# Altium footprint library PCB_Library.PcbLib: 22 footprints (part 2 of 2)
Each footprint in its own frame and in the unit in brackets; x right, y up, seen from the top. Pads: shape width x height; smd on the part's side, far side on the other; paste and mask are expansions set on the pad; w line width, h text height; cw(c..) or ccw(c..) is an arc to the next point about the centre after c.
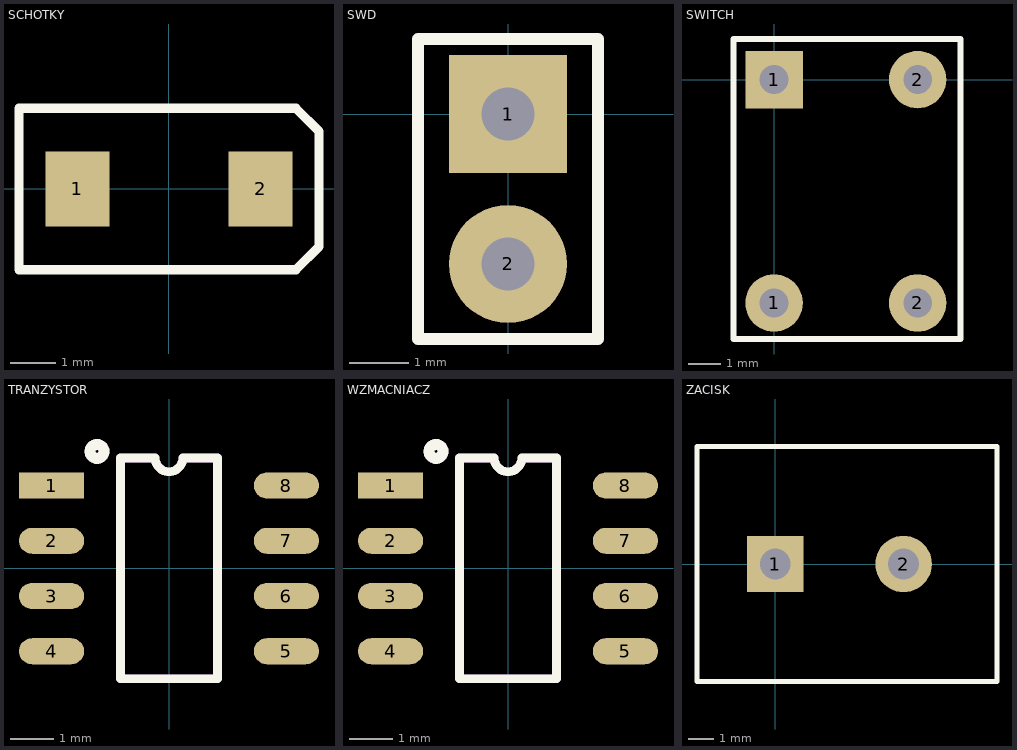
[diagram p1: the footprints below, top view; thin cyan lines are the x and y axes]

## SCHOTKY [mm]
pads (2):
  rect 1.4x1.64 smd paste+0 mask+0.102: 1(-2.015,0) 2(2.015,0)
Top Overlay:
  lines w0.2: -3.302,-1.778 -3.302,1.778 2.794,1.778 3.302,1.27 3.302,-1.27 2.794,-1.778 -3.302,-1.778
3D body "SCHOOTKY.step": height 2.64, standoff 0, extent -2.68,-1.448 2.68,1.448

## SWD [mm]
pads (2):
  rect 2x2 hole 0.9: 1(0,0)
  round 2 hole 0.9: 2(0,-2.54)
Top Overlay:
  lines w0.2: -1.524,-3.81 1.524,-3.81 1.524,1.27 -1.524,1.27 -1.524,-3.81
3D body "77311-118-02LF.STEP": height 8.19, standoff -3.31, extent -1.194,-3.61 1.216,1.07

## SWITCH [mm]
pads (4):
  round 1.8 hole 0.9: 1(0,-7) 2(4.5,-7) 2(4.5,0)
  rect 1.8x1.8 hole 0.9: 1(0,0)
Top Overlay:
  lines w0.2: -1.27,-8.128 -1.27,0.762 -1.27,1.27 5.842,1.27 5.842,0.762 5.842,-8.128 5.588,-8.128 -1.27,-8.128
3D body "c-2-1825910-7-c-3d.stp": height 13.01, standoff -3.5, extent -0.695,-7.3 5.295,0.5

## TRANZYSTOR [mm]
pads (8):
  rect 1.5x0.6 smd paste+0: 1(-2.7,1.905)
  oval 1.5x0.6 smd paste+0: 2(-2.7,0.635) 3(-2.7,-0.635) 4(-2.7,-1.905) 5(2.7,-1.905) 6(2.7,-0.635) 7(2.7,0.635) 8(2.7,1.905)
Top Overlay:
  circle w0.25: c-1.656,2.69 r0.16
  lines w0.2: -1.115,-2.54 -1.115,2.54 -0.318,2.54 ccw(c0,2.54) 0.318,2.54 1.115,2.54 1.115,-2.54 -1.115,-2.54
Top Assembly:
  circle w0.25: c-1.656,2.69 r0.16
  lines w0.2: -1.115,-2.54 -1.115,2.54 -0.318,2.54 ccw(c0,2.54) 0.318,2.54 1.115,2.54 1.115,-2.54 -1.115,-2.54
3D body "MCP6022-I_SN.step": height 1.75, standoff 0, extent -3,-2.45 3,2.45

## WZMACNIACZ [mm]
pads (8):
  rect 1.5x0.6 smd paste+0: 1(-2.7,1.905)
  oval 1.5x0.6 smd paste+0: 2(-2.7,0.635) 3(-2.7,-0.635) 4(-2.7,-1.905) 5(2.7,-1.905) 6(2.7,-0.635) 7(2.7,0.635) 8(2.7,1.905)
Top Overlay:
  circle w0.25: c-1.656,2.69 r0.16
  lines w0.2: -1.115,-2.54 1.115,-2.54 1.115,2.54 0.318,2.54 cw(c0,2.54) -0.318,2.54 -1.115,2.54 -1.115,-2.54
Top Assembly:
  circle w0.25: c-1.656,2.69 r0.16
  lines w0.2: -1.115,-2.54 1.115,-2.54 1.115,2.54 0.318,2.54 cw(c0,2.54) -0.318,2.54 -1.115,2.54 -1.115,-2.54
3D body "MCP6022-I_SN.step": height 1.75, standoff 0, extent -3,-2.45 3,2.45

## ZACISK [mm]
pads (2):
  rect 2.2x2.2 hole 1.2: 1(0,0)
  round 2.2 hole 1.2: 2(5,0)
Top Overlay:
  lines w0.2: -3.048,-4.572 -3.048,4.572 8.636,4.572 8.636,-4.572 -3.048,-4.572
3D body "282836-2.STEP": height 10.01, standoff -3.49, extent -2.5,-4 8.1,4.2